# Altium footprint library jumper.PCBLIB: 66 footprints (part 4 of 5)
Each footprint in its own frame and in the unit in brackets; x right, y up, seen from the top. Pads: shape width x height; smd on the part's side, far side on the other; paste and mask are expansions set on the pad; w line width, h text height; cw(c..) or ccw(c..) is an arc to the next point about the centre after c.
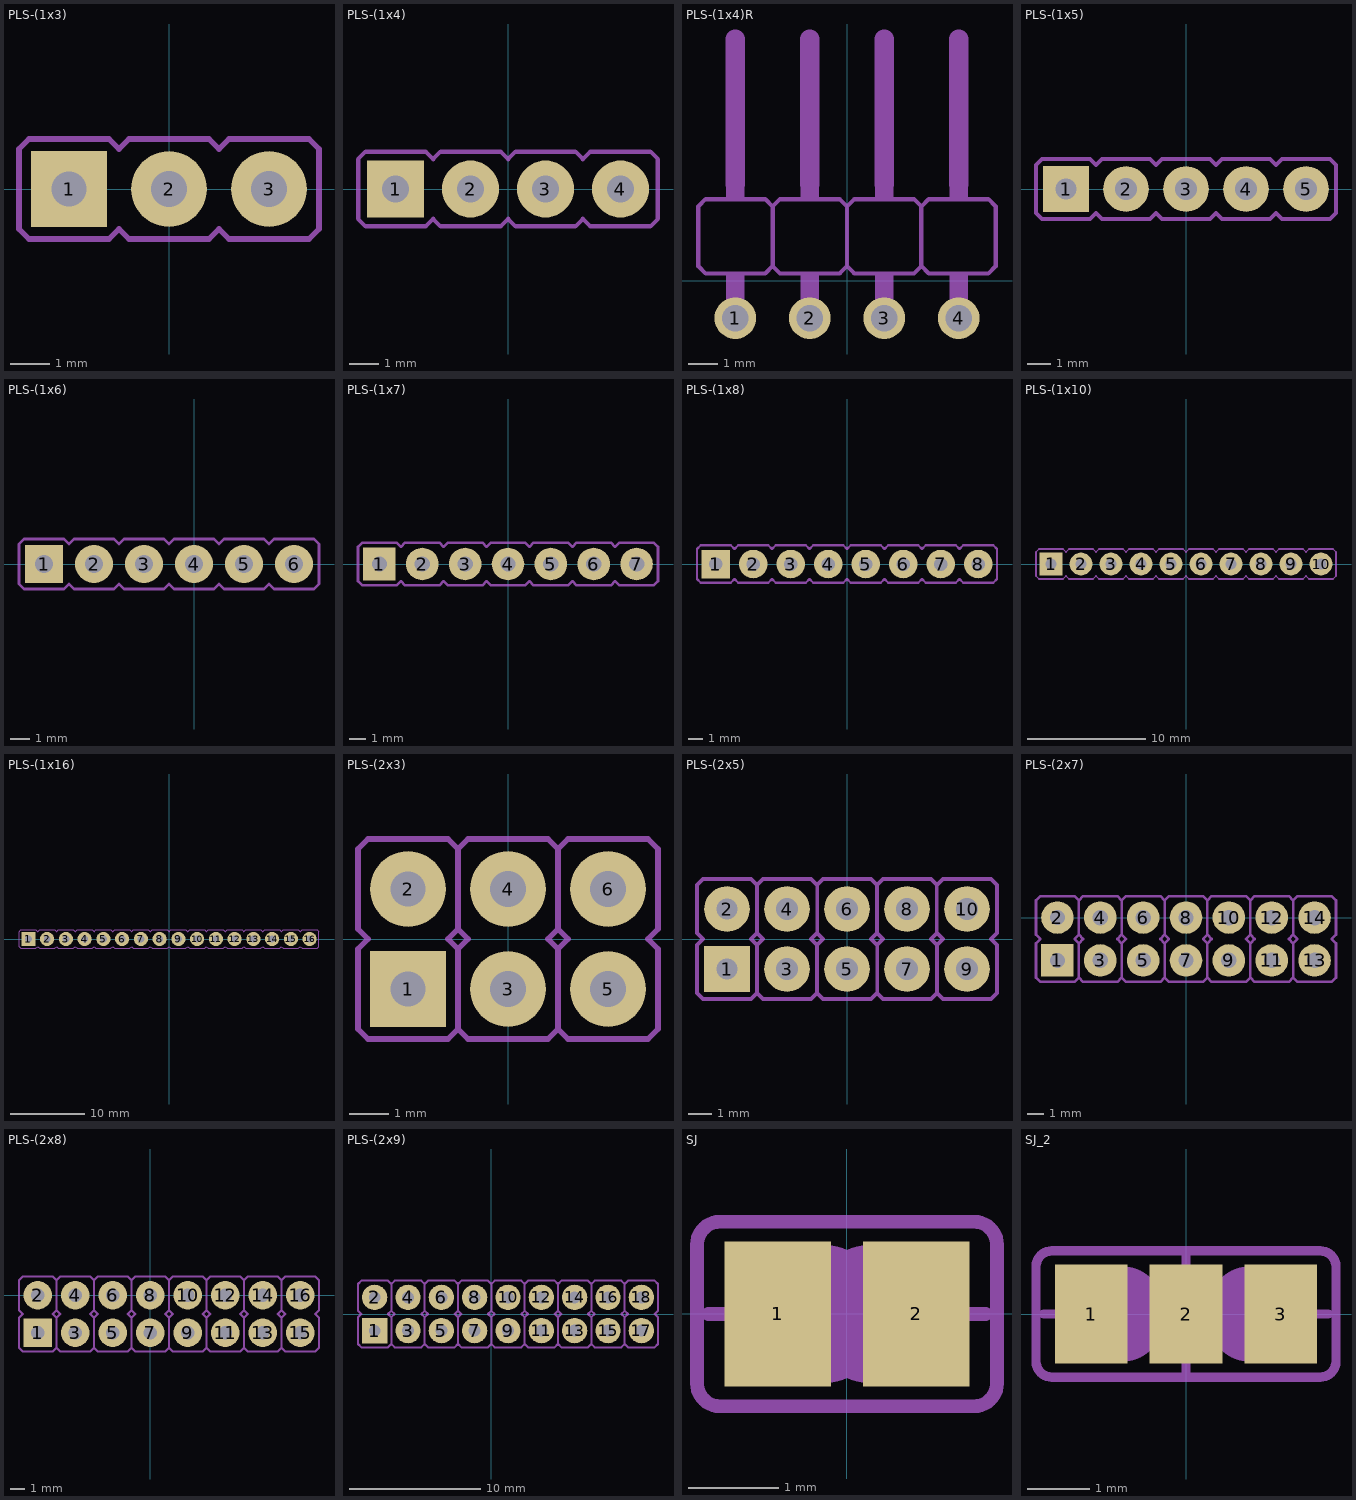
[diagram p3: the footprints below, top view; thin cyan lines are the x and y axes]

## PLS-(1x3) [mil]
pads (3):
  rect 76x76 / inner round 70.21 / far side rect 76x76 hole 35.43: 1(-100,0)
  round 76 hole 36: 2(0,0) 3(100,0)
Mechanical 3:
  region: 88,-12 88,12 112,12 112,-12
  region: -12,-12 -12,12 12,12 12,-12
  region: -112,-12 -112,12 -88,12 -88,-12
Mechanical 7:
  lines w6: -150,-40 -140,-50 -60,-50 -50,-40 -40,-50 40,-50 50,-40 60,-50 140,-50 150,-40 150,40 140,50 60,50 50,40 40,50 -40,50 -50,40 -60,50 -140,50 -150,40 -150,-40

## PLS-(1x4) [mil]
pads (4):
  rect 76x76 / inner round 70.21 / far side rect 76x76 hole 35.43: 1(-150,0)
  round 76 hole 36: 2(-50,0) 3(50,0) 4(150,0)
Mechanical 3:
  region: 138,-12 138,12 162,12 162,-12
  region: 38,-12 38,12 62,12 62,-12
  region: -62,-12 -62,12 -38,12 -38,-12
  region: -162,-12 -162,12 -138,12 -138,-12
Mechanical 7:
  lines w6: -200,-40 -190,-50 -110,-50 -100,-40 -90,-50 -10,-50 0,-40 10,-50 90,-50 100,-40 110,-50 190,-50 200,-40 200,40 190,50 110,50 100,40 90,50 10,50 0,40 -10,50 -90,50 -100,40 -110,50 -190,50 -200,40 -200,-40

## PLS-(1x4)R [mil]
pads (4):
  round 56 hole 36: 1(-150,-50) 2(-50,-50) 3(50,-50) 4(150,-50)
Mechanical 3:
  region: 138,-60 138,-10 162,-10 162,-60
  region: 38,-60 38,-10 62,-10 62,-60
  region: -162,-60 -162,-10 -138,-10 -138,-60
  region: -62,-60 -62,-10 -38,-10 -38,-60
Mechanical 7:
  region: 38,110 38,130 62,130 62,110
  region: 138,110 138,130 162,130 162,110
  region: 38,-10 38,10 62,10 62,-10
  region: 138,-10 138,10 162,10 162,-10
  region: -162,110 -162,130 -138,130 -138,110
  region: -62,110 -62,130 -38,130 -38,110
  region: -162,-10 -162,10 -138,10 -138,-10
  region: -62,-10 -62,10 -38,10 -38,-10
  lines w6: -100,20 -110,10 -190,10 -200,20 -200,100 -190,110 -110,110 -100,100 ; -100,20 -90,10 -10,10 0,20 ; -100,20 -100,100 ; -100,100 -90,110 -10,110 0,100 ; 0,20 0,100 ; 0,20 10,10 90,10 100,20 ; 0,100 10,110 90,110 100,100 ; 100,20 110,10 190,10 200,20 200,100 190,110 110,110 100,100 ; 100,20 100,100
  lines w26: -150,130 -150,325 ; -50,130 -50,325 ; 50,130 50,325 ; 150,130 150,325
  text "4" at 135,50 h60.45
  text "3" at 40,50 h60.45
  text "2" at -65,50 h60.45
  text "1" at -160,50 h60.45

## PLS-(1x5) [mil]
pads (5):
  rect 76x76 / inner round 70.21 / far side rect 76x76 hole 35.43: 1(-200,0)
  round 76 hole 36: 2(-100,0) 3(0,0) 4(100,0) 5(200,0)
Mechanical 3:
  region: 188,-12 188,12 212,12 212,-12
  region: 88,-12 88,12 112,12 112,-12
  region: -12,-12 -12,12 12,12 12,-12
  region: -112,-12 -112,12 -88,12 -88,-12
  region: -212,-12 -212,12 -188,12 -188,-12
Mechanical 7:
  lines w6: -250,-40 -240,-50 -160,-50 -150,-40 -140,-50 -60,-50 -50,-40 -40,-50 40,-50 50,-40 60,-50 140,-50 150,-40 160,-50 240,-50 250,-40 250,40 240,50 160,50 150,40 140,50 60,50 50,40 40,50 -40,50 -50,40 -60,50 -140,50 -150,40 -160,50 -240,50 -250,40 -250,-40

## PLS-(1x6) [mil]
pads (6):
  rect 76x76 / inner round 70.21 / far side rect 76x76 hole 35.43: 1(-300,0)
  round 76 hole 36: 2(-200,0) 3(-100,0) 4(0,0) 5(100,0) 6(200,0)
Mechanical 3:
  region: 188,-12 188,12 212,12 212,-12
  region: 88,-12 88,12 112,12 112,-12
  region: -12,-12 -12,12 12,12 12,-12
  region: -112,-12 -112,12 -88,12 -88,-12
  region: -212,-12 -212,12 -188,12 -188,-12
  region: -312,-12 -312,12 -288,12 -288,-12
Mechanical 7:
  lines w6: -350,-40 -340,-50 -260,-50 -250,-40 -240,-50 -160,-50 -150,-40 -140,-50 -60,-50 -50,-40 -40,-50 40,-50 50,-40 60,-50 140,-50 150,-40 160,-50 240,-50 250,-40 250,40 240,50 160,50 150,40 140,50 60,50 50,40 40,50 -40,50 -50,40 -60,50 -140,50 -150,40 -160,50 -240,50 -250,40 -260,50 -340,50 -350,40 -350,-40

## PLS-(1x7) [mil]
pads (7):
  rect 76x76 / inner round 70.21 / far side rect 76x76 hole 35.43: 1(-300,0)
  round 76 hole 36: 2(-200,0) 3(-100,0) 4(0,0) 5(100,0) 6(200,0) 7(300,0)
Mechanical 3:
  region: 288,-12 288,12 312,12 312,-12
  region: 188,-12 188,12 212,12 212,-12
  region: 88,-12 88,12 112,12 112,-12
  region: -12,-12 -12,12 12,12 12,-12
  region: -112,-12 -112,12 -88,12 -88,-12
  region: -212,-12 -212,12 -188,12 -188,-12
  region: -312,-12 -312,12 -288,12 -288,-12
Mechanical 7:
  lines w6: -350,-40 -340,-50 -260,-50 -250,-40 -240,-50 -160,-50 -150,-40 -140,-50 -60,-50 -50,-40 -40,-50 40,-50 50,-40 60,-50 140,-50 150,-40 160,-50 240,-50 250,-40 260,-50 340,-50 350,-40 350,40 340,50 260,50 250,40 240,50 160,50 150,40 140,50 60,50 50,40 40,50 -40,50 -50,40 -60,50 -140,50 -150,40 -160,50 -240,50 -250,40 -260,50 -340,50 -350,40 -350,-40

## PLS-(1x8) [mil]
pads (8):
  rect 76x76 / inner round 70.21 / far side rect 76x76 hole 35.43: 1(-350,0)
  round 76 hole 36: 2(-250,0) 3(-150,0) 4(-50,0) 5(50,0) 6(150,0) 7(250,0) 8(350,0)
Mechanical 3:
  region: 338,-12 338,12 362,12 362,-12
  region: 238,-12 238,12 262,12 262,-12
  region: 138,-12 138,12 162,12 162,-12
  region: 38,-12 38,12 62,12 62,-12
  region: -62,-12 -62,12 -38,12 -38,-12
  region: -162,-12 -162,12 -138,12 -138,-12
  region: -262,-12 -262,12 -238,12 -238,-12
  region: -362,-12 -362,12 -338,12 -338,-12
Mechanical 7:
  lines w6: -400,-40 -390,-50 -310,-50 -300,-40 -290,-50 -210,-50 -200,-40 -190,-50 -110,-50 -100,-40 -90,-50 -10,-50 0,-40 10,-50 90,-50 100,-40 110,-50 190,-50 200,-40 210,-50 290,-50 300,-40 310,-50 390,-50 400,-40 400,40 390,50 310,50 300,40 290,50 210,50 200,40 190,50 110,50 100,40 90,50 10,50 0,40 -10,50 -90,50 -100,40 -110,50 -190,50 -200,40 -210,50 -290,50 -300,40 -310,50 -390,50 -400,40 -400,-40

## PLS-(1x10) [mil]
pads (10):
  rect 76x76 / inner round 70.21 / far side rect 76x76 hole 36: 1(-450,0)
  round 76 hole 36: 2(-350,0) 3(-250,0) 4(-150,0) 5(-50,0) 6(50,0) 7(150,0) 8(250,0) 9(350,0) 10(450,0)
Mechanical 3:
  region: -462,-12 -462,12 -438,12 -438,-12
  region: -362,-12 -362,12 -338,12 -338,-12
  region: -262,-12 -262,12 -238,12 -238,-12
  region: -162,-12 -162,12 -138,12 -138,-12
  region: -62,-12 -62,12 -38,12 -38,-12
  region: 38,-12 38,12 62,12 62,-12
  region: 138,-12 138,12 162,12 162,-12
  region: 238,-12 238,12 262,12 262,-12
  region: 338,-12 338,12 362,12 362,-12
  region: 438,-12 438,12 462,12 462,-12
Mechanical 7:
  lines w6: -500,-40 -500,40 -490,50 -410,50 -400,40 -390,50 -310,50 -300,40 -290,50 -210,50 -200,40 -190,50 -110,50 -100,40 -90,50 -10,50 0,40 10,50 90,50 100,40 110,50 190,50 200,40 210,50 290,50 300,40 310,50 390,50 400,40 410,50 490,50 500,40 500,-40 490,-50 410,-50 400,-40 390,-50 310,-50 300,-40 290,-50 210,-50 200,-40 190,-50 110,-50 100,-40 90,-50 10,-50 0,-40 -10,-50 -90,-50 -100,-40 -110,-50 -190,-50 -200,-40 -210,-50 -290,-50 -300,-40 -310,-50 -390,-50 -400,-40 -410,-50 -490,-50 -500,-40

## PLS-(1x16) [mil]
pads (16):
  rect 76x76 / inner round 70.21 / far side rect 76x76 hole 36: 1(-750,0)
  round 76 hole 36: 2(-650,0) 3(-550,0) 4(-450,0) 5(-350,0) 6(-250,0) 7(-150,0) 8(-50,0) 9(50,0) 10(150,0) 11(250,0) 12(350,0) 13(450,0) 14(550,0) 15(650,0) 16(750,0)
Mechanical 3:
  region: -762,-12 -762,12 -738,12 -738,-12
  region: -662,-12 -662,12 -638,12 -638,-12
  region: -562,-12 -562,12 -538,12 -538,-12
  region: -462,-12 -462,12 -438,12 -438,-12
  region: -362,-12 -362,12 -338,12 -338,-12
  region: 638,-12 638,12 662,12 662,-12
  region: 738,-12 738,12 762,12 762,-12
  region: -262,-12 -262,12 -238,12 -238,-12
  region: -162,-12 -162,12 -138,12 -138,-12
  region: -62,-12 -62,12 -38,12 -38,-12
  region: 38,-12 38,12 62,12 62,-12
  region: 138,-12 138,12 162,12 162,-12
  region: 238,-12 238,12 262,12 262,-12
  region: 338,-12 338,12 362,12 362,-12
  region: 438,-12 438,12 462,12 462,-12
  region: 538,-12 538,12 562,12 562,-12
Mechanical 7:
  lines w6: -800,-40 -800,40 -790,50 -710,50 -700,40 -690,50 -610,50 -600,40 -590,50 -510,50 -500,40 -490,50 -410,50 -400,40 -390,50 -310,50 -300,40 -290,50 -210,50 -200,40 -190,50 -110,50 -100,40 -90,50 -10,50 0,40 10,50 90,50 100,40 110,50 190,50 200,40 210,50 290,50 300,40 310,50 390,50 400,40 410,50 490,50 500,40 510,50 590,50 600,40 610,50 690,50 700,40 710,50 790,50 800,40 800,-40 790,-50 710,-50 700,-40 690,-50 610,-50 600,-40 590,-50 510,-50 500,-40 490,-50 410,-50 400,-40 390,-50 310,-50 300,-40 290,-50 210,-50 200,-40 190,-50 110,-50 100,-40 90,-50 10,-50 0,-40 -10,-50 -90,-50 -100,-40 -110,-50 -190,-50 -200,-40 -210,-50 -290,-50 -300,-40 -310,-50 -390,-50 -400,-40 -410,-50 -490,-50 -500,-40 -510,-50 -590,-50 -600,-40 -610,-50 -690,-50 -700,-40 -710,-50 -790,-50 -800,-40

## PLS-(2x3) [mil]
pads (6):
  rect 76x76 / inner round 70.21 / far side rect 76x76 hole 35.43: 1(-100,-50)
  round 76 hole 35.43: 2(-100,50)
  round 76 hole 36: 3(0,-50) 4(0,50) 5(100,-50) 6(100,50)
Mechanical 3:
  region: 88,38 88,62 112,62 112,38
  region: -12,38 -12,62 12,62 12,38
  region: -112,38 -112,62 -88,62 -88,38
  region: 88,-62 88,-38 112,-38 112,-62
  region: -12,-62 -12,-38 12,-38 12,-62
  region: -112,-62 -112,-38 -88,-38 -88,-62
Mechanical 7:
  lines w5: -49.91,-91.13 -49.78,-91.13 ; -49.89,9.2 -49.78,9.2
  lines w6: -49.91,-91.13 -49.91,-9.37 ; -49.89,9.2 -49.89,90.84 ; 50.01,-90.86 50.18,-90.86 50.18,-9.27 ; 50.09,90.35 50.09,9.27 50.18,9.27 ; -150,-90 -140,-100 -60,-100 -50,-90 -40,-100 40,-100 50,-90 60,-100 140,-100 150,-90 150,-10 140,0 150,10 150,90 140,100 60,100 50,90 40,100 -40,100 -50,90 -60,100 -140,100 -150,90 -150,10 -140,0 -150,-10 -150,-90 ; -60,0 -50,10 -40,0 -50,-10 -60,0 ; 40,0 50,10 60,0 50,-10 40,0

## PLS-(2x5) [mil]
pads (10):
  rect 76x76 / inner round 70.21 / far side rect 76x76 hole 35.43: 1(-200,-50)
  round 76 hole 35.43: 2(-200,50)
  round 76 hole 36: 3(-100,-50) 4(-100,50) 5(0,-50) 6(0,50) 7(100,-50) 8(100,50) 9(200,-50) 10(200,50)
Mechanical 3:
  region: 188,38 188,62 212,62 212,38
  region: 88,38 88,62 112,62 112,38
  region: -12,38 -12,62 12,62 12,38
  region: -112,38 -112,62 -88,62 -88,38
  region: -212,38 -212,62 -188,62 -188,38
  region: 188,-62 188,-38 212,-38 212,-62
  region: 88,-62 88,-38 112,-38 112,-62
  region: -12,-62 -12,-38 12,-38 12,-62
  region: -112,-62 -112,-38 -88,-38 -88,-62
  region: -212,-62 -212,-38 -188,-38 -188,-62
Mechanical 7:
  lines w6: -150.07,-9.43 -150.07,-90.76 -149.97,-90.76 ; -150.02,91.08 -150.02,9.05 -149.88,9.05 ; -50.04,-90.25 -50.04,-8.95 -49.95,-8.95 ; -49.98,90.81 -49.86,90.81 -49.86,9.69 ; 49.98,9.16 50.06,9.16 50.06,91.09 ; 50.08,-90.83 50.13,-90.83 50.13,-9.01 ; 149.85,9.86 149.85,90.81 ; 149.95,-8.82 149.99,-8.82 149.99,-90.94 ; 149.85,90.81 149.86,90.81 ; -250,-90 -240,-100 -160,-100 -150,-90 -140,-100 -60,-100 -50,-90 -40,-100 40,-100 50,-90 60,-100 140,-100 150,-90 160,-100 240,-100 250,-90 250,-10 240,0 250,10 250,90 240,100 160,100 150,90 140,100 60,100 50,90 40,100 -40,100 -50,90 -60,100 -140,100 -150,90 -160,100 -240,100 -250,90 -250,10 -240,0 -250,-10 -250,-90 ; -160,0 -150,10 -140,0 -150,-10 -160,0 ; -60,0 -50,10 -40,0 -50,-10 -60,0 ; 40,0 50,10 60,0 50,-10 40,0 ; 140,0 150,10 160,0 150,-10 140,0
3D body "PLS (DS1021-2x5).x_t": height 339.08, standoff -117.61, extent -250,-100 250,100

## PLS-(2x7) [mil]
pads (14):
  rect 76x76 / inner round 70.21 / far side rect 76x76 hole 35.43: 1(-300,-100)
  round 76 hole 35.43: 2(-300,0)
  round 76 hole 36: 3(-200,-100) 4(-200,0) 5(-100,-100) 6(-100,0) 7(0,-100) 8(0,0) 9(100,-100) 10(100,0) 11(200,-100) 12(200,0) 13(300,-100) 14(300,0)
Mechanical 3:
  region: -312,-112 -312,-88 -288,-88 -288,-112
  region: -212,-112 -212,-88 -188,-88 -188,-112
  region: -112,-112 -112,-88 -88,-88 -88,-112
  region: -12,-112 -12,-88 12,-88 12,-112
  region: 88,-112 88,-88 112,-88 112,-112
  region: 188,-112 188,-88 212,-88 212,-112
  region: 288,-112 288,-88 312,-88 312,-112
  region: -312,-12 -312,12 -288,12 -288,-12
  region: -212,-12 -212,12 -188,12 -188,-12
  region: -112,-12 -112,12 -88,12 -88,-12
  region: -12,-12 -12,12 12,12 12,-12
  region: 88,-12 88,12 112,12 112,-12
  region: 188,-12 188,12 212,12 212,-12
  region: 288,-12 288,12 312,12 312,-12
Mechanical 7:
  lines w6: -250.06,-40.36 -250.06,40.91 ; -249.96,-59.15 -249.96,-140.67 -249.92,-140.67 ; -149.98,-140.73 -149.98,-59.21 ; -149.97,-40.14 -149.97,40.9 ; -50.12,-41.01 -50.06,-41.01 -50.06,40.47 ; -50.05,-59.47 -50.05,-141.25 ; 49.91,-58.88 50.06,-58.88 50.06,-140.29 ; 50,-40.12 50,40.91 ; 150.1,40.49 150.1,-41.05 150.16,-41.05 ; 150.2,-58.9 150.2,-140.8 150.23,-140.8 ; 249.97,-59.08 250.13,-59.08 250.13,-140.52 ; 249.96,-40.82 249.96,40.91 ; -150.01,-59.21 -149.98,-59.21 ; -149.97,40.9 -149.93,40.9 ; -50.07,-141.25 -50.05,-141.25 ; -350,-140 -350,-60 -340,-50 -350,-40 -350,40 -340,50 -260,50 -250,40 -240,50 -160,50 -150,40 -140,50 -60,50 -50,40 -40,50 40,50 50,40 60,50 140,50 150,40 160,50 240,50 250,40 260,50 340,50 350,40 350,-40 340,-50 350,-60 350,-140 340,-150 260,-150 250,-140 240,-150 160,-150 150,-140 140,-150 60,-150 50,-140 40,-150 -40,-150 -50,-140 -60,-150 -140,-150 -150,-140 -160,-150 -240,-150 -250,-140 -260,-150 -340,-150 -350,-140 ; -260,-50 -250,-60 -240,-50 -250,-40 -260,-50 ; -160,-50 -150,-60 -140,-50 -150,-40 -160,-50 ; -60,-50 -50,-60 -40,-50 -50,-40 -60,-50 ; 40,-50 50,-60 60,-50 50,-40 40,-50 ; 140,-50 150,-60 160,-50 150,-40 140,-50 ; 240,-50 250,-60 260,-50 250,-40 240,-50

## PLS-(2x8) [mil]
pads (16):
  rect 76x76 / inner round 70.21 / far side rect 76x76 hole 35.43: 1(-300,-100)
  round 76 hole 35.43: 2(-300,0)
  round 76 hole 36: 3(-200,-100) 4(-200,0) 5(-100,-100) 6(-100,0) 7(0,-100) 8(0,0) 9(100,-100) 10(100,0) 11(200,-100) 12(200,0) 13(300,-100) 14(300,0) 15(400,-100) 16(400,0)
Mechanical 3:
  region: -312,-112 -312,-88 -288,-88 -288,-112
  region: -212,-112 -212,-88 -188,-88 -188,-112
  region: -112,-112 -112,-88 -88,-88 -88,-112
  region: -12,-112 -12,-88 12,-88 12,-112
  region: 88,-112 88,-88 112,-88 112,-112
  region: 188,-112 188,-88 212,-88 212,-112
  region: 288,-112 288,-88 312,-88 312,-112
  region: -312,-12 -312,12 -288,12 -288,-12
  region: -212,-12 -212,12 -188,12 -188,-12
  region: -112,-12 -112,12 -88,12 -88,-12
  region: -12,-12 -12,12 12,12 12,-12
  region: 88,-12 88,12 112,12 112,-12
  region: 188,-12 188,12 212,12 212,-12
  region: 288,-12 288,12 312,12 312,-12
  region: 388,-112 388,-88 412,-88 412,-112
  region: 388,-12 388,12 412,12 412,-12
Mechanical 7:
  lines w6: -250.06,-40.36 -250.06,40.91 ; -249.96,-59.15 -249.96,-140.67 -249.92,-140.67 ; -149.98,-140.73 -149.98,-59.21 ; -149.97,-40.14 -149.97,40.9 ; -50.12,-41.01 -50.06,-41.01 -50.06,40.47 ; -50.05,-59.47 -50.05,-141.25 ; 49.91,-58.88 50.06,-58.88 50.06,-140.29 ; 50,-40.12 50,40.91 ; 150.1,40.49 150.1,-41.05 150.16,-41.05 ; 150.2,-58.9 150.2,-140.8 150.23,-140.8 ; 249.97,-59.08 250.13,-59.08 250.13,-140.52 ; 249.96,-40.82 249.96,40.91 ; -150.01,-59.21 -149.98,-59.21 ; -149.97,40.9 -149.93,40.9 ; -50.07,-141.25 -50.05,-141.25 ; 350,-140 340,-150 260,-150 250,-140 240,-150 160,-150 150,-140 140,-150 60,-150 50,-140 40,-150 -40,-150 -50,-140 -60,-150 -140,-150 -150,-140 -160,-150 -240,-150 -250,-140 -260,-150 -340,-150 -350,-140 -350,-60 -340,-50 -350,-40 -350,40 -340,50 -260,50 -250,40 -240,50 -160,50 -150,40 -140,50 -60,50 -50,40 -40,50 40,50 50,40 60,50 140,50 150,40 160,50 240,50 250,40 260,50 340,50 350,40 ; 350,-140 350,-60 ; 350,-140 360,-150 440,-150 450,-140 450,-60 440,-50 450,-40 450,40 440,50 360,50 350,40 ; 350,-60 340,-50 350,-40 ; 350,-60 360,-50 350,-40 ; 350,-40 350,40 ; -260,-50 -250,-60 -240,-50 -250,-40 -260,-50 ; -160,-50 -150,-60 -140,-50 -150,-40 -160,-50 ; -60,-50 -50,-60 -40,-50 -50,-40 -60,-50 ; 40,-50 50,-60 60,-50 50,-40 40,-50 ; 140,-50 150,-60 160,-50 150,-40 140,-50 ; 240,-50 250,-60 260,-50 250,-40 240,-50
3D body "PLS (DS1021-2x8).x_t": height 339.08, standoff -117.61, extent -350,-150 450,50

## PLS-(2x9) [mil]
pads (18):
  rect 76x76 / inner round 70.21 / far side rect 76x76 hole 35.43: 1(-350,-50)
  round 76 hole 35.43: 2(-350,50)
  round 76 hole 36: 3(-250,-50) 4(-250,50) 5(-150,-50) 6(-150,50) 7(-50,-50) 8(-50,50) 9(50,-50) 10(50,50) 11(150,-50) 12(150,50) 13(250,-50) 14(250,50) 15(350,-50) 16(350,50) 17(450,-50) 18(450,50)
Mechanical 3:
  region: 438,38 438,62 462,62 462,38
  region: 438,-62 438,-38 462,-38 462,-62
  region: 338,38 338,62 362,62 362,38
  region: 338,-62 338,-38 362,-38 362,-62
  region: 238,38 238,62 262,62 262,38
  region: 138,38 138,62 162,62 162,38
  region: 38,38 38,62 62,62 62,38
  region: -62,38 -62,62 -38,62 -38,38
  region: -162,38 -162,62 -138,62 -138,38
  region: -262,38 -262,62 -238,62 -238,38
  region: -362,38 -362,62 -338,62 -338,38
  region: 238,-62 238,-38 262,-38 262,-62
  region: 138,-62 138,-38 162,-38 162,-62
  region: 38,-62 38,-38 62,-38 62,-62
  region: -62,-62 -62,-38 -38,-38 -38,-62
  region: -162,-62 -162,-38 -138,-38 -138,-62
  region: -262,-62 -262,-38 -238,-38 -238,-62
  region: -362,-62 -362,-38 -338,-38 -338,-62
Mechanical 7:
  lines w6: -300.06,9.64 -300.06,90.91 ; -299.96,-9.15 -299.96,-90.67 -299.92,-90.67 ; -199.98,-90.73 -199.98,-9.21 ; -199.97,9.86 -199.97,90.9 ; -100.12,8.99 -100.06,8.99 -100.06,90.47 ; -100.05,-9.47 -100.05,-91.25 ; -0.09,-8.88 0.06,-8.88 0.06,-90.29 ; 0,9.88 0,90.91 ; 100.1,90.49 100.1,8.95 100.16,8.95 ; 100.2,-8.9 100.2,-90.8 100.23,-90.8 ; 199.97,-9.08 200.13,-9.08 200.13,-90.52 ; 199.96,9.18 199.96,90.91 ; -200.01,-9.21 -199.98,-9.21 ; -199.97,90.9 -199.93,90.9 ; -100.07,-91.25 -100.05,-91.25 ; 300,-90 310,-100 390,-100 400,-90 ; 300,-90 300,-10 ; 300,-90 290,-100 210,-100 200,-90 190,-100 110,-100 100,-90 90,-100 10,-100 0,-90 -10,-100 -90,-100 -100,-90 -110,-100 -190,-100 -200,-90 -210,-100 -290,-100 -300,-90 -310,-100 -390,-100 -400,-90 -400,-10 -390,0 -400,10 -400,90 -390,100 -310,100 -300,90 -290,100 -210,100 -200,90 -190,100 -110,100 -100,90 -90,100 -10,100 0,90 10,100 90,100 100,90 110,100 190,100 200,90 210,100 290,100 300,90 ; 300,-10 310,0 300,10 ; 300,-10 290,0 300,10 ; 300,10 300,90 ; 300,90 310,100 390,100 400,90 ; 400,-90 410,-100 490,-100 500,-90 500,-10 490,0 500,10 500,90 490,100 410,100 400,90 ; 400,-90 400,-10 ; 400,-10 390,0 400,10 ; 400,-10 410,0 400,10 ; 400,10 400,90 ; -310,0 -300,10 -290,0 -300,-10 -310,0 ; -210,0 -200,10 -190,0 -200,-10 -210,0 ; -110,0 -100,10 -90,0 -100,-10 -110,0 ; -10,0 0,10 10,0 0,-10 -10,0 ; 90,0 100,10 110,0 100,-10 90,0 ; 190,0 200,10 210,0 200,-10 190,0

## SJ [mil]
pads (2):
  rect 46x63 smd: 1(-30,0) 2(30,0)
Top Solder:
  region: -3,-36 -3,36 3,36 3,-36
Mechanical 3:
  lines w6: -60,0 -40,0 ; 40,0 60,0
  lines w50: -10,-5 cw(c-10,0) -10,5 ; 10,-5 ccw(c10,0) 10,5
Mechanical 7:
  lines w6: -65,-30 ccw(c-55,-30) -55,-40 55,-40 ccw(c55,-30) 65,-30 65,30 ccw(c55,30) 55,40 -55,40 ccw(c-55,30) -65,30 -65,-30

## SJ_2 [mil]
pads (3):
  rect 46x63 smd: 1(-60,0) 2(0,0) 3(60,0)
Mechanical 3:
  region: -20,-30 -20,30 20,30 20,-30
  lines w6: -90,0 -70,0 ; 0,-40 0,-30 ; 0,30 0,40 ; 70,0 90,0
  lines w50: -40,-5 cw(c-40,0) -40,5 ; 40,-5 ccw(c40,0) 40,5
Mechanical 7:
  lines w6: -95,-30 ccw(c-85,-30) -85,-40 85,-40 ccw(c85,-30) 95,-30 95,30 ccw(c85,30) 85,40 -85,40 ccw(c-85,30) -95,30 -95,-30